# Altium schematic symbol library boost.SchLib: 1 symbol
Pins are listed as number, name and electrical type; pins without a type are passive.

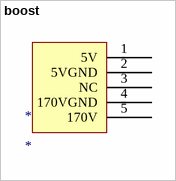
[diagram p0: symbol boost]

## boost
designator *
boost
pins: 1 5V, 2 5VGND, 3 NC, 4 170VGND, 5 170V